# Altium footprint library B6-1-2.PcbLib: 23 footprints (part 2 of 2)
Each footprint in its own frame and in the unit in brackets; x right, y up, seen from the top. Pads: shape width x height; smd on the part's side, far side on the other; paste and mask are expansions set on the pad; w line width, h text height; cw(c..) or ccw(c..) is an arc to the next point about the centre after c.
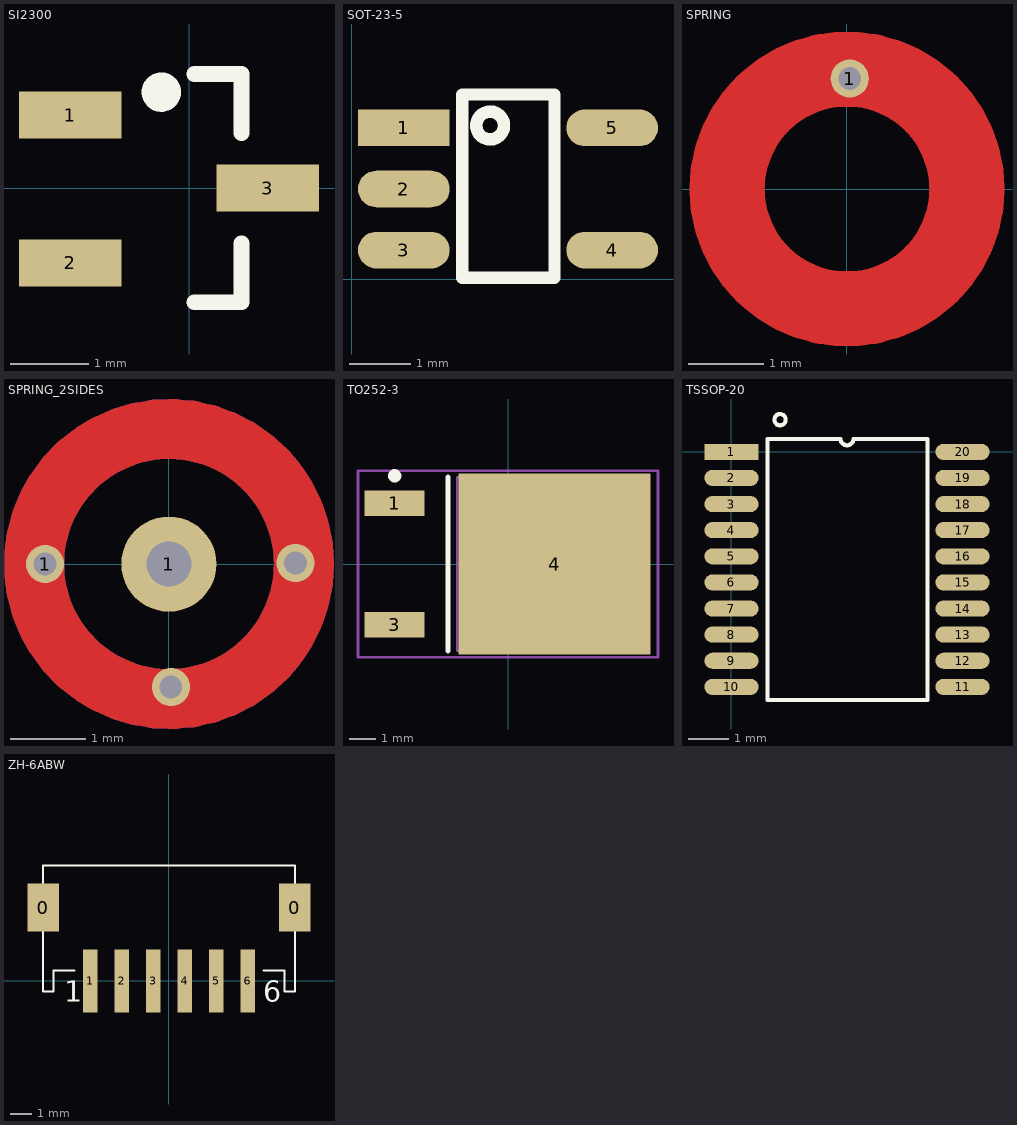
[diagram p1: the footprints below, top view; thin cyan lines are the x and y axes]

## SI2300 [mm] "SOT23, 3-Leads, Body 2.9x2.4mm (max), Pitch 0.95mm, IPC Medium Density"
height 0.93
pads (3):
  rect 1.3x0.6 smd: 1(-1.511,0.927) 2(-1.511,-0.95) 3(1,0)
Top Overlay:
  circle w0.25: c-0.354,1.219 r0.125
  lines w0.2: 0.065,-1.45 0.665,-1.45 0.665,-0.7 ; 0.065,1.45 0.665,1.45 0.665,0.7

## SOT-23-5 [mm]
height 0.93
pads (5):
  rect 1.5x0.6 smd: 1(0.851,2.476)
  oval 1.5x0.6 smd: 2(0.851,1.476) 3(0.851,0.476) 4(4.257,0.476) 5(4.257,2.476)
Top Overlay:
  circle w0.203: c2.262,2.515 r0.227
  lines w0.203: 1.803,0.025 1.803,3.023 3.315,3.023 3.315,0.025 1.803,0.025

## SPRING [mil]
height 393.7
pads (1):
  round 20 hole 12.01: 1(1.5,58)
Top Layer:
  circle w39.37: c0.05,0.03 r62.99
Top Solder:
  circle w39.37: c0.05,0.03 r62.99
Mechanical 1:
  circle w5: c0.05,0.03 r78.74

## SPRING_2SIDES [mil]
height 393.7
pads (2):
  round 20 hole 12.01: 1(-65,0)
  round 50 hole 23.62: 1(0,0)
via 66.5,0.5 diameter 20 hole 12
via 1,-64.5 diameter 20 hole 12
Top Layer:
  circle w31.5: c0.05,0.03 r70.87
Bottom Layer:
  circle w31.5: c0.05,0.03 r70.87
Top Solder:
  circle w31.5: c0.05,0.03 r70.87
Bottom Solder:
  circle w31.5: c0.05,0.03 r70.87
Mechanical 1:
  circle w5: c0.05,0.03 r78.74
  circle w5: c0.05,0.03 r9.84

## TO252-3 [mm] "D-PAK, 3-Pads, Body 5.5x6.5mm (max), IPC Medium Density"
height 2.38
pads (3):
  rect 2.25x0.95 smd: 1(-4.25,2.28) 3(-4.25,-2.28)
  rect 7.2x6.8 smd: 4(1.75,0)
Top Overlay:
  circle w0.25: c-4.25,3.305 r0.125
  lines w0.2: -2.25,-3.25 -2.25,3.25
Mechanical 13:
  lines w0.1: -1.9,-3.25 -1.9,3.25 3.6,3.25 3.6,-3.25 -1.9,-3.25
Mechanical 15:
  lines w0.1: -0.5,0 0.5,0 ; 0,-0.5 0,0.5 ; -5.625,-3.5 -5.625,3.5 5.625,3.5 5.625,-3.5 -5.625,-3.5
3D body: height 2.38, standoff 0.5, extent -1.9,-3.25 3.6,3.25

## TSSOP-20 [mm]
height 1
pads (20):
  rect 1.35x0.4 smd mask+0.05: 1(0,0)
  oval 1.35x0.4 smd mask+0.05: 2(0,-0.65) 3(0,-1.3) 4(0,-1.95) 5(0,-2.6) 6(0,-3.25) 7(0,-3.9) 8(0,-4.55) 9(0,-5.2) 10(0,-5.85) 11(5.75,-5.85) 12(5.75,-5.2) 13(5.75,-4.55) 14(5.75,-3.9) 15(5.75,-3.25) 16(5.75,-2.6) 17(5.75,-1.95) 18(5.75,-1.3) 19(5.75,-0.65) 20(5.75,0)
Top Overlay:
  circle w0.1: c1.209,0.8 r0.141
  lines w0.1: 0.9,-6.175 0.9,0.325 2.712,0.325 ccw(c2.875,0.325) 3.037,0.325 4.875,0.325 4.875,-6.175 0.9,-6.175

## ZH-6ABW [mm]
height 0.93
pads (8):
  rect 1.5x2.3 smd: 0(-6,3.5) 0(6,3.5)
  rect 0.7x3 smd: 1(-3.75,0) 2(-2.25,0) 3(-0.75,0) 4(0.75,0) 5(2.25,0) 6(3.75,0)
Top Overlay:
  lines w0.1: -4.5,0.5 -5.5,0.5 -5.5,-0.5 -6,-0.5 -6,5.5 6,5.5 6,-0.5 5.5,-0.5 5.5,0.5 4.5,0.5
  text "6" at 4.5,-1 h1
  text "1" at -5,-1 h1